# Altium footprint library AG.Old.PcbLib: 35 footprints (part 3 of 3)
Each footprint in its own frame and in the unit in brackets; x right, y up, seen from the top. Pads: shape width x height; smd on the part's side, far side on the other; paste and mask are expansions set on the pad; w line width, h text height; cw(c..) or ccw(c..) is an arc to the next point about the centre after c.
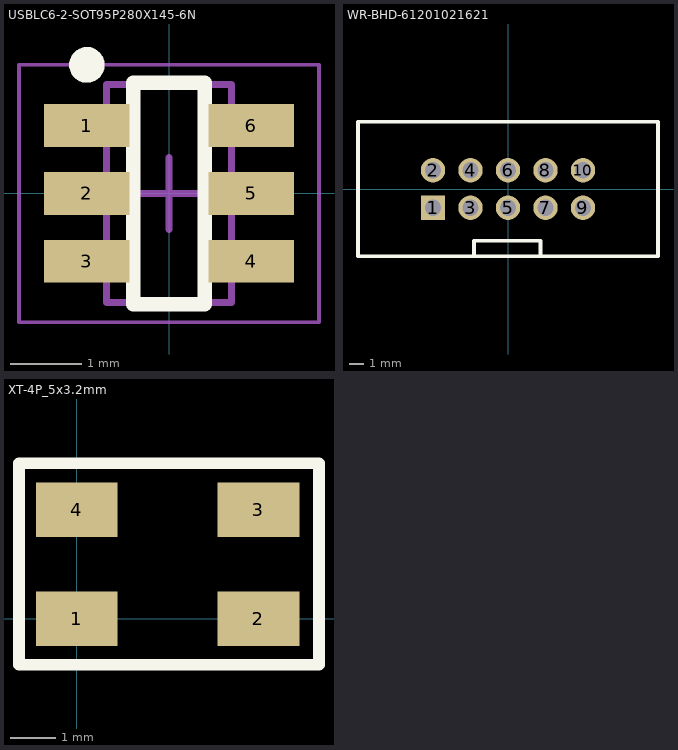
[diagram p2: the footprints below, top view; thin cyan lines are the x and y axes]

## USBLC6-2-SOT95P280X145-6N [mm] "Footprint for USBLC6-2: SOT23, 6-Leads, Body 2.92x2.80mm, Pitch 0.95mm, IPC Medium Density"
height 1.45
pads (6):
  rect 1.2x0.6 smd: 1(-1.15,0.95) 2(-1.15,0) 3(-1.15,-0.95) 4(1.15,-0.95) 5(1.15,0) 6(1.15,0.95)
Top Overlay:
  circle w0.25: c-1.15,1.8 r0.125
  lines w0.2: -0.5,-1.55 0.5,-1.55 0.5,1.55 -0.5,1.55 -0.5,-1.55
Mechanical 13:
  lines w0.1: -0.875,-1.525 -0.875,1.525 0.875,1.525 0.875,-1.525 -0.875,-1.525
Mechanical 15:
  lines w0.05: -2.1,-1.8 -2.1,1.8 2.1,1.8 2.1,-1.8 -2.1,-1.8
  lines w0.1: -0.5,0 0.5,0 ; 0,-0.5 0,0.5
3D body "USBLC6-2-SOT95P280X145-6N.step": height 1.45, standoff 0, extent -1.5,-1.525 1.5,1.525

## WR-BHD-61201021621 [mil] "IDC-10P WR-BHD Male Box Header"
height 358.27
pads (10):
  rect 65x65 hole 43.31: 1(-200,-50)
  round 65 hole 43.31: 2(-200,50) 3(-100,-50) 4(-100,50) 5(0,-50) 6(0,50) 7(100,-50) 8(100,50) 9(200,-50) 10(200,50)
Top Overlay:
  lines w10: -90.55,-179.13 -90.55,-137.8 86.61,-137.8 86.61,-179.13 ; -400,-179.13 -400,179.13 400,179.13 400,-179.13 -400,-179.13

## XT-4P_5x3.2mm [mm] "Crystal Resonator 4 Leads 5x3.2mm (Generic)"
height 1.05
pads (4):
  rect 1.8x1.2 smd mask+0.051: 1(0,0) 2(4,0) 3(4,2.4) 4(0,2.4)
Top Overlay:
  lines w0.254: -1.27,-1.016 5.334,-1.016 5.334,3.429 -1.27,3.429 -1.27,-1.016
3D body "QUARTZ_5x3.2mm.STEP": height 1.1, standoff 0, extent -0.493,-0.406 4.507,2.794